# EAGLE library part 1-1825289-0 (library Switches)
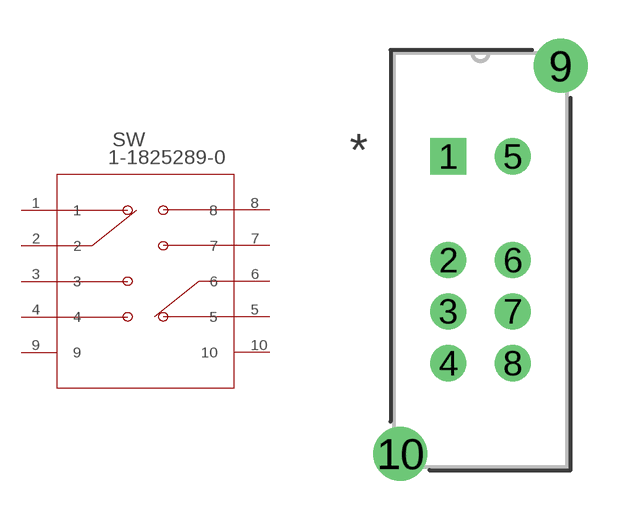
[diagram p33: symbol with the pads of SW8_MHS233; footprint SW8_MHS233]

Designator prefix SW

## 1-1825289-0 (BUILT_BY: EMA_UL_Team; CATEGORY: Slide Switches; CONFIGURATION__POLE-THROW_: Double Pole - Three Throw; CONTACT_CURRENT_RATING: 0.3; COPYRIGHT: Copyright (C) 2016 Accelerated Designs. All rights reserved; DESCRIPTION: MHS233K04=DP3T SL SW VERT AG; MANUFACTURER_PART_NUMBER: 1-1825289-0; MAX_SWITCHING_CURRENT: -; MAX_SWITCHING_VOLTAGE_AC_: -; PART_STATUS: active; PRODUCT_TYPE: Switch; SERIES: Alcoswitch MHS; SWITCH_TYPE: Slide; TE_INTERNAL_NUMBER: 1-1825289-0; TE_PART_NUMBER: 1-1825289-0; VENDOR: TE Connectivity; VOLTAGE_RATING: -)  [SW8_MHS233]
1  1  pas
2  2  pas
3  3  pas
4  4  pas
5  5  pas
6  6  pas
7  7  pas
8  8  pas
9  9  pas
10  10  pas

## Footprint SW8_MHS233 (pad centres in mm)
drill 0.889 pad 1.397 square: 1 -2.489,8.001
drill 0.889 pad 1.397: 2 -2.489,3.988; 3 -2.489,2.007; 4 -2.489,0; 5 0,8.001; 6 0,3.988; 7 0,2.007; 8 0,0
drill 1.397 pad 1.905: 9 1.854,11.506; 10 -4.343,-3.505